# EAGLE library part 6.3X.8_F062.200 (library Faston)
Flachstecker 2-fach
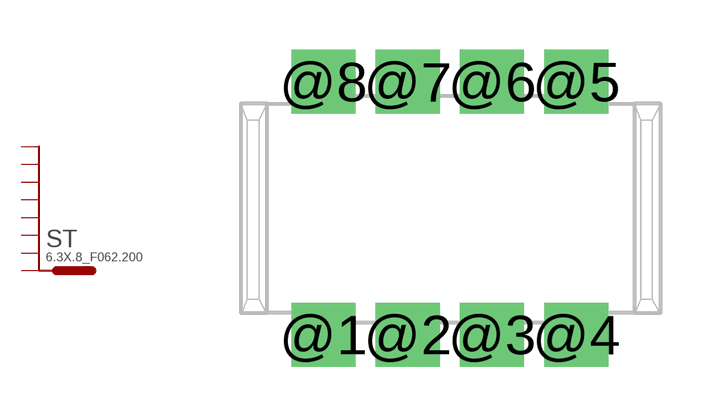
[diagram p0: symbol with the pads of F062.200; footprint F062.200]

Designator prefix ST

## 6.3X.8_F062.200 (BUERKLIN: 05F405; EINPRESSSTIFTE: 24A)  [F062.200]
@1    pas
@2    pas
@3    pas
@4    pas
@5    pas
@6    pas
@7    pas
@8    pas

## Footprint F062.200 (pad centres in mm)
drill 1 pad 1.93 square: @1 -3.81,-3.81; @2 -1.27,-3.81; @3 1.27,-3.81; @4 3.81,-3.81; @5 3.81,3.81; @6 1.27,3.81; @7 -1.27,3.81; @8 -3.81,3.81